# Altium footprint library LFCSP65P200X200-6N.PcbLib: 1 footprints
Each footprint in its own frame and in the unit in brackets; x right, y up, seen from the top. Pads: shape width x height; smd on the part's side, far side on the other; paste and mask are expansions set on the pad; w line width, h text height; cw(c..) or ccw(c..) is an arc to the next point about the centre after c.
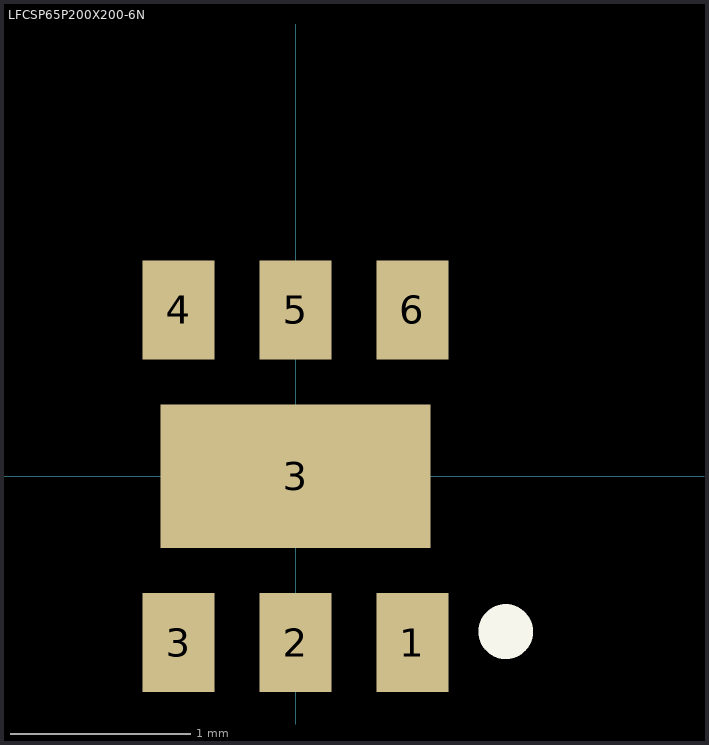
[diagram p0: the footprint, top view; thin cyan lines are the x and y axes]

## LFCSP65P200X200-6N [mm] "Footprint for ADPD2210 current amplifier"
height 0.55
pads (7):
  rect 0.4x0.55 smd: 1(0.65,-0.925) 2(0,-0.925) 3(-0.65,-0.925) 4(-0.65,0.925) 5(0,0.925) 6(0.65,0.925)
  rect 1.5x0.8 smd: 3(0,0)
Top Layer:
  pour cut-out: 1.575,2.337
Top Overlay:
  circle w0.254: c1.168,-0.864 r0.025